# Altium footprint library MS5611-01BA01.PcbLib: 1 footprints
Each footprint in its own frame and in the unit in brackets; x right, y up, seen from the top. Pads: shape width x height; smd on the part's side, far side on the other; paste and mask are expansions set on the pad; w line width, h text height; cw(c..) or ccw(c..) is an arc to the next point about the centre after c.
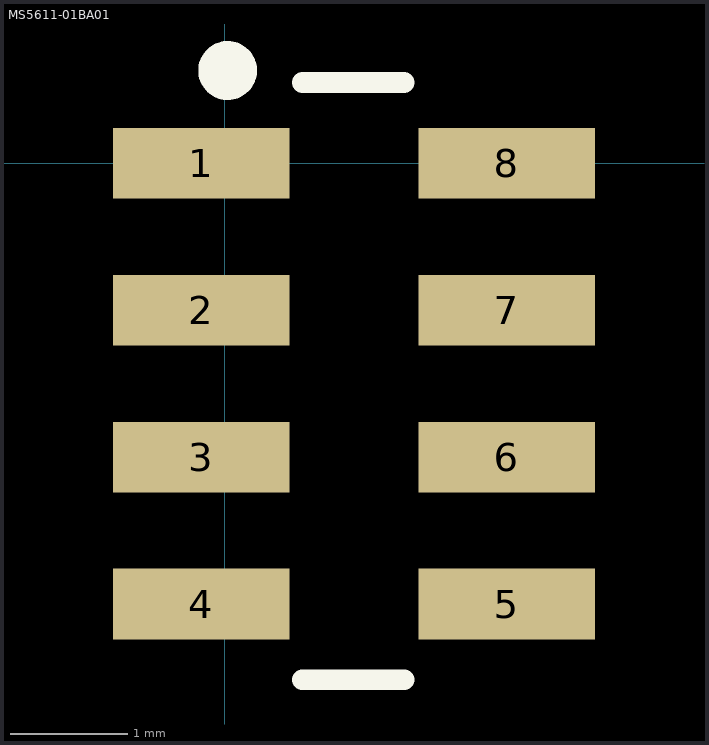
[diagram p0: the footprint, top view; thin cyan lines are the x and y axes]

## MS5611-01BA01 [mm]
pads (8):
  rect 1.5x0.6 smd: 1(-0.2,0) 2(-0.2,-1.25) 3(-0.2,-2.5) 4(-0.2,-3.75) 5(2.4,-3.75) 6(2.4,-2.5) 7(2.4,-1.25) 8(2.4,0)
Top Overlay:
  circle w0.25: c0.025,0.787 r0.125
  lines w0.178: 0.66,-4.394 1.524,-4.394 ; 0.66,0.686 1.524,0.686
3D body: height 1.7, standoff 0, extent -0.429,-4.397 2.619,0.683